# Altium schematic symbol library MCP9700T.SchLib: 1 symbol
Pins are listed as number, name and electrical type; pins without a type are passive.

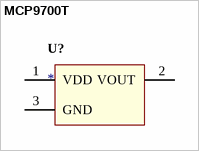
[diagram p0: symbol MCP9700T]

## MCP9700T
designator U?
pins: 1 VDD (power), 2 VOUT (power), 3 GND (power)